# EAGLE library part FEATHER-M0-WIFI (library Adafruit_Modules)
Adafruit Feather M0 WiFi Boards ATSAMD21 - 48 MHz Cortex M0, ATWINC1500 (WiFi & WiFi uFL)
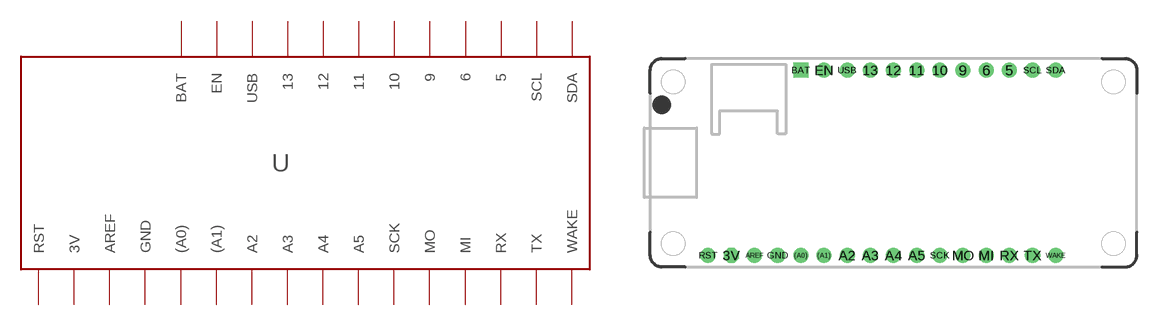
[diagram p16: symbol with the pads of FEATHER-M0-WIFI; footprint FEATHER-M0-WIFI]

Designator prefix -

## FEATHER-M0-WIFI (ADAFRUIT: 3010, 3061)  [FEATHER-M0-WIFI]
3V  3V  out
5  5
6  6
9  9
10  10
11  11
12  12
13  13
(A0)  (A0)
(A1)  (A1)
A2  A2
A3  A3
A4  A4
A5  A5
AREF  AREF  in
BAT  BAT  pwr
EN  EN  pas
GND  GND  pwr
MI  MI
MO  MO
RST  RST  pas
RX  RX
SCK  SCK
SCL  SCL
SDA  SDA
TX  TX
USB  USB  out
WAKE  WAKE

## Footprint FEATHER-M0-WIFI (pad centres in mm)
Adafruit Feather - WiFi Layout
drill 1.1 octagon: 3V -16.51,-10.16
drill 1.1: 5 13.97,10.16; 6 11.43,10.16; 9 8.89,10.16; 10 6.35,10.16; 11 3.81,10.16; 12 1.27,10.16; 13 -1.27,10.16; (A0) -8.89,-10.16; (A1) -6.35,-10.16; A2 -3.81,-10.16; A3 -1.27,-10.16; A4 1.27,-10.16; A5 3.81,-10.16; AREF -13.97,-10.16; EN -6.35,10.16; GND -11.43,-10.16; MI 11.43,-10.16; MO 8.89,-10.16; RST -19.05,-10.16; RX 13.97,-10.16; SCK 6.35,-10.16; SCL 16.51,10.16; SDA 19.05,10.16; TX 16.51,-10.16; USB -3.81,10.16; WAKE 19.05,-10.16
drill 1.1 square: BAT -8.89,10.16